# Altium schematic symbol library Logic.SchLib: 19 symbols
Pins are listed as number, name and electrical type; pins without a type are passive.

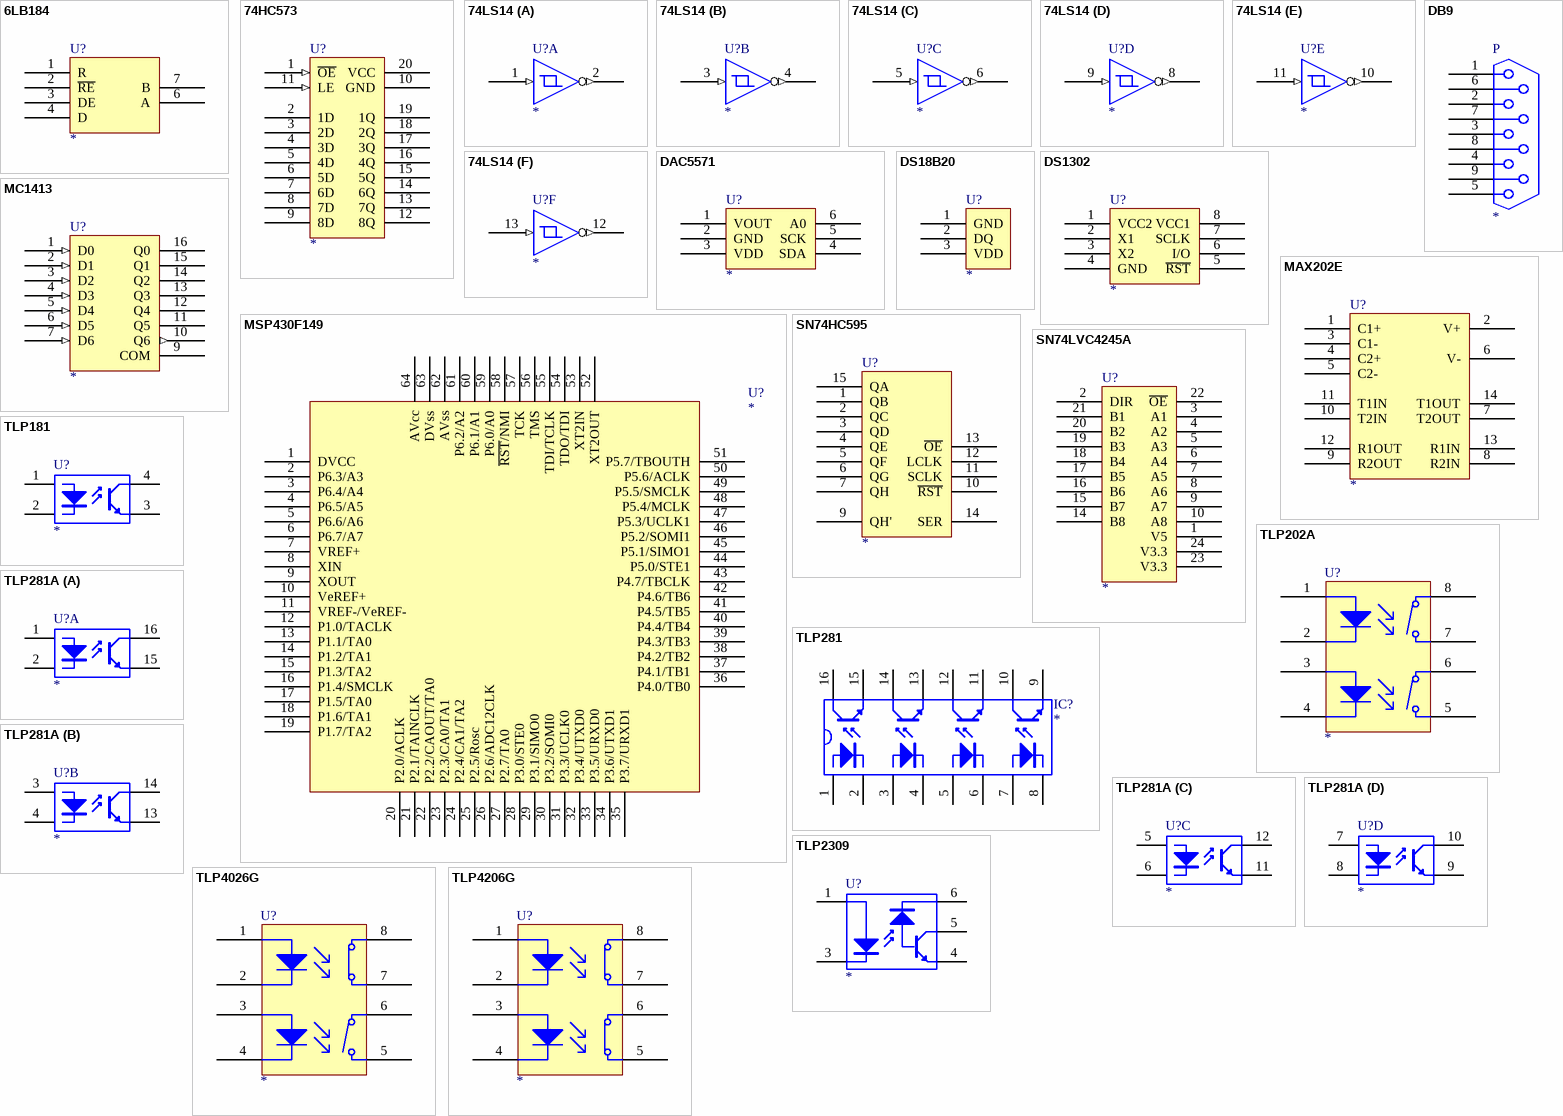
[diagram p0: symbols 6LB184 to TLP4206G]

## 6LB184
designator U?
footprint SOP-8
pins: 1 R, 2 ~{RE}, 3 DE, 4 D, 5 GND (power) hidden to GND, 6 A, 7 B, 8 VCC (power) hidden to VCC

## 74HC573
designator U?
footprint SOP-20
pins: 1 ~{OE} (in), 2 1D, 3 2D, 4 3D, 5 4D, 6 5D, 7 6D, 8 7D, 9 8D, 10 GND (power), 11 LE (in), 12 8Q, 13 7Q, 14 6Q, 15 5Q, 16 4Q, 17 3Q, 18 2Q, 19 1Q, 20 VCC (power)

## 74LS14
designator U?
footprint DIP14
part A pins: 1 (in), 2 (out), 7 GND (power) hidden to GND, 14 VCC (power) hidden to VCC
part B pins: 3 (in), 4 (out), 7 GND (power) hidden to GND, 14 VCC (power) hidden to VCC
part C pins: 5 (in), 6 (out), 7 GND (power) hidden to GND, 14 VCC (power) hidden to VCC
part D pins: 7 GND (power) hidden to GND, 8 (out), 9 (in), 14 VCC (power) hidden to VCC
part E pins: 7 GND (power) hidden to GND, 10 (out), 11 (in), 14 VCC (power) hidden to VCC
part F pins: 7 GND (power) hidden to GND, 12 (out), 13 (in), 14 VCC (power) hidden to VCC

## DAC5571
designator U?
footprint SOT23-6
pins: 1 VOUT, 2 GND, 3 VDD, 4 SDA, 5 SCK, 6 A0

## DB9
designator P
footprint DB-9
pins: 1, 2, 3, 4, 5, 6, 7, 8, 9

## DS18B20
designator U?
footprint TO-92B
pins: 1 GND, 2 DQ, 3 VDD

## DS1302
designator U?
footprint SOP-8
pins: 1 VCC2, 2 X1, 3 X2, 4 GND, 5 ~{RST}, 6 I/O, 7 SCLK, 8 VCC1

## MAX202E
designator U?
footprint SSOP-16
footprint DIP-16
pins: 1 C1+, 2 V+, 3 C1-, 4 C2+, 5 C2-, 6 V-, 7 T2OUT, 8 R2IN, 9 R2OUT, 10 T2IN, 11 T1IN, 12 R1OUT, 13 R1IN, 14 T1OUT, 15 GND (power) hidden to GND, 16 VCC (power) hidden to VCC

## MC1413
designator U?
footprint DIP-16
footprint SOP-16
pins: 1 D0 (in), 2 D1 (in), 3 D2 (in), 4 D3 (in), 5 D4 (in), 6 D5 (in), 7 D6 (in), 8 GND (power) hidden to GND, 9 COM, 10 Q6 (out), 11 Q5, 12 Q4, 13 Q3, 14 Q2, 15 Q1, 16 Q0

## MSP430F149
designator U?
footprint PQFP10X10-64
footprint QIDC-64
pins: 1 DVCC, 2 P6.3/A3, 3 P6.4/A4, 4 P6.5/A5, 5 P6.6/A6, 6 P6.7/A7, 7 VREF+, 8 XIN, 9 XOUT, 10 VeREF+, 11 VREF-/VeREF-, 12 P1.0/TACLK, 13 P1.1/TA0, 14 P1.2/TA1, 15 P1.3/TA2, 16 P1.4/SMCLK, 17 P1.5/TA0, 18 P1.6/TA1, 19 P1.7/TA2, 20 P2.0/ACLK, 21 P2.1/TAINCLK, 22 P2.2/CAOUT/TA0, 23 P2.3/CA0/TA1, 24 P2.4/CA1/TA2, 25 P2.5/Rosc, 26 P2.6/ADC12CLK, 27 P2.7/TA0, 28 P3.0/STE0, 29 P3.1/SIMO0, 30 P3.2/SOMI0, 31 P3.3/UCLK0, 32 P3.4/UTXD0, 33 P3.5/URXD0, 34 P3.6/UTXD1, 35 P3.7/URXD1, 36 P4.0/TB0, 37 P4.1/TB1, 38 P4.2/TB2, 39 P4.3/TB3, 40 P4.4/TB4, 41 P4.5/TB5, 42 P4.6/TB6, 43 P4.7/TBCLK, 44 P5.0/STE1, 45 P5.1/SIMO1, 46 P5.2/SOMI1, 47 P5.3/UCLK1, 48 P5.4/MCLK, 49 P5.5/SMCLK, 50 P5.6/ACLK, 51 P5.7/TBOUTH, 52 XT2OUT, 53 XT2IN, 54 TDO/TDI, 55 TDI/TCLK, 56 TMS, 57 TCK, 58 ~{RST}/NMI, 59 P6.0/A0, 60 P6.1/A1, 61 P6.2/A2, 62 AVss, 63 DVss, 64 AVcc

## SN74HC595
designator U?
footprint SOP-16
pins: 1 QB, 2 QC, 3 QD, 4 QE, 5 QF, 6 QG, 7 QH, 8 GND (power) hidden to GND, 9 QH', 10 ~{RST}, 11 SCLK, 12 LCLK, 13 ~{OE}, 14 SER, 15 QA, 16 VCC (power) hidden to VCC

## SN74LVC4245A
designator U?
footprint SSOP-24
pins: 1 V5, 2 DIR, 3 A1, 4 A2, 5 A3, 6 A4, 7 A5, 8 A6, 9 A7, 10 A8, 11 GND (power) hidden to GND, 12 GND (power) hidden to GND, 13 GND (power) hidden to GND, 14 B8, 15 B7, 16 B6, 17 B5, 18 B4, 19 B3, 20 B2, 21 B1, 22 ~{OE}, 23 V3.3, 24 V3.3

## TLP181
designator U?
Optoisolator
footprint DIP4
pins: 1 A, 2 K, 3 E, 4 C

## TLP202A
designator U?
footprint SOP-8H
footprint DIP8
pins: 1, 2, 3, 4, 5, 6, 7, 8

## TLP281
designator IC?
footprint SOP-16W
pins: 1 A1, 2 K1, 3 A2, 4 K2, 5 A3, 6 K3, 7 A4, 8 K4, 9 E4, 10 C4, 11 E3, 12 C3, 13 E2, 14 C2, 15 E1, 16 C1

## TLP281A
designator U?
Optoisolator
footprint SOP-16W
part A pins: 1 A, 2 K, 15 E, 16 C
part B pins: 3 A, 4 K, 13 E, 14 C
part C pins: 5 A, 6 K, 11 E, 12 C
part D pins: 7 A, 8 K, 9 E, 10 C

## TLP2309
designator U?
Optoisolator
footprint SO6
pins: 1, 3, 4, 5, 6

## TLP4026G
designator U?
footprint SOP-8H
footprint DIP8
pins: 1, 2, 3, 4, 5, 6, 7, 8

## TLP4206G
designator U?
footprint SOP-8H
footprint DIP8
pins: 1, 2, 3, 4, 5, 6, 7, 8